# Altium footprint library mmWave_RIS_Lumo.PcbLib: 7 footprints
Each footprint in its own frame and in the unit in brackets; x right, y up, seen from the top. Pads: shape width x height; smd on the part's side, far side on the other; paste and mask are expansions set on the pad; w line width, h text height; cw(c..) or ccw(c..) is an arc to the next point about the centre after c.
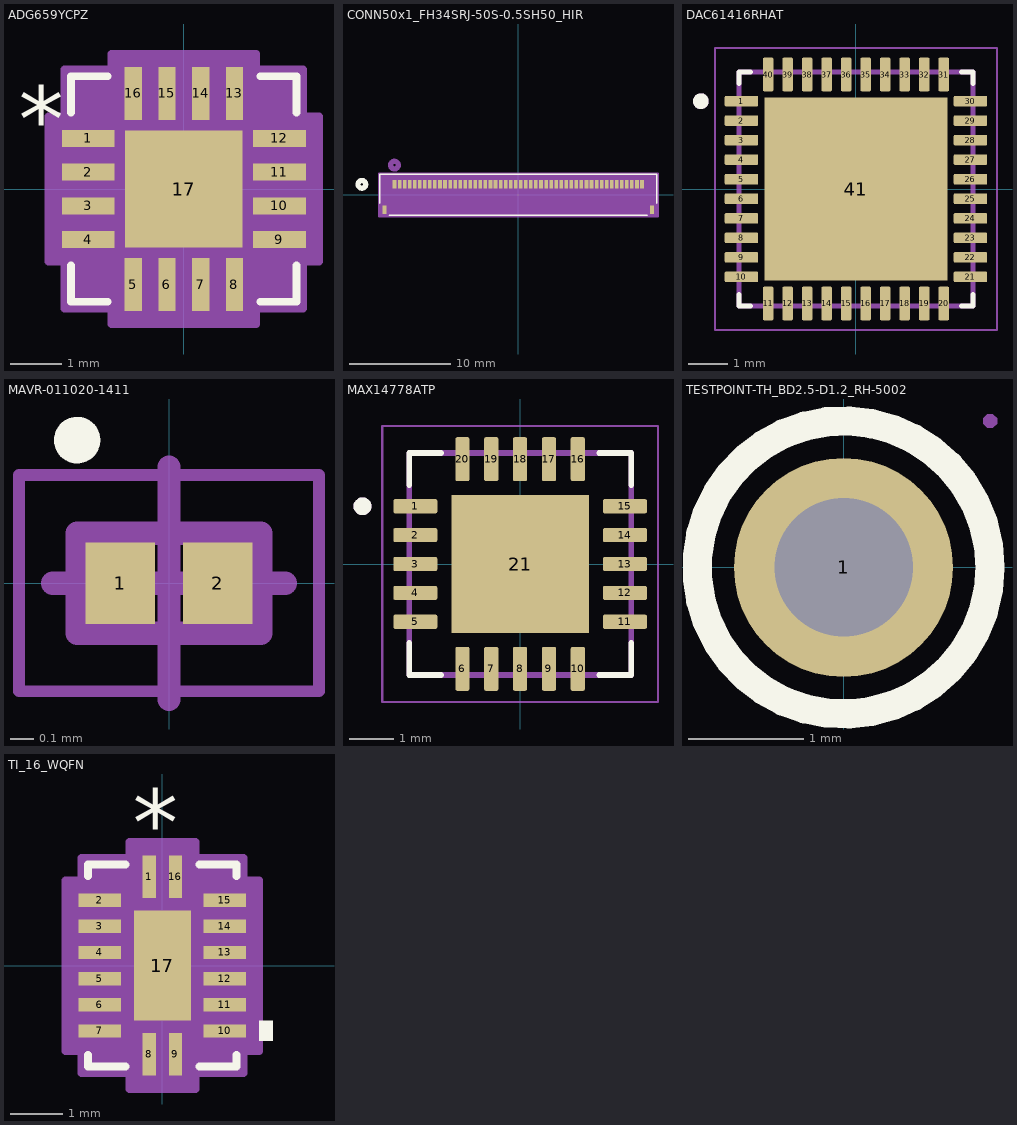
[diagram p0: the footprints below, top view; thin cyan lines are the x and y axes]

## ADG659YCPZ [mil]
pads (17):
  rect 40x13 smd paste+0 mask+0: 1(-72.5,38.39) 2(-72.5,12.8) 3(-72.5,-12.8) 4(-72.5,-38.39) 9(72.5,-38.39) 10(72.5,-12.8) 11(72.5,12.8) 12(72.5,38.39)
  rect 13x40 smd paste+0 mask+0: 5(-38.39,-72.5) 6(-12.8,-72.5) 7(12.8,-72.5) 8(38.39,-72.5) 13(38.39,72.5) 14(12.8,72.5) 15(-12.8,72.5) 16(-38.39,72.5)
  rect 89x89 smd paste+0 mask+0: 17(0,0)
Top Overlay:
  lines w6: -85.5,-57.99 -85.5,-85.5 -57.99,-85.5 ; -85.5,57.99 -85.5,85.5 -57.99,85.5 ; 57.99,-85.5 85.5,-85.5 85.5,-57.99 ; 57.99,85.5 85.5,85.5 85.5,57.99
  text ".Designator" at -137.5,-25 h50
  text "*" at -125,28.39 h50
Mechanical 13:
  lines w1: -80.5,-80.5 -80.5,80.5 80.5,80.5 80.5,-80.5 -80.5,-80.5 ; -80.5,-45.39 -80.5,-31.39 -80.5,-45.39 ; -80.5,-19.8 -80.5,-5.8 -80.5,-19.8 ; -80.5,5.8 -80.5,19.8 -80.5,5.8 ; -80.5,31.39 -80.5,45.39 -80.5,31.39 ; -45.39,-80.5 -31.39,-80.5 -45.39,-80.5 ; -45.39,80.5 -31.39,80.5 -45.39,80.5 ; -19.8,-80.5 -5.8,-80.5 -19.8,-80.5 ; -19.8,80.5 -5.8,80.5 -19.8,80.5 ; 5.8,-80.5 19.8,-80.5 5.8,-80.5 ; 5.8,80.5 19.8,80.5 5.8,80.5 ; 31.39,-80.5 45.39,-80.5 31.39,-80.5 ; 31.39,80.5 45.39,80.5 31.39,80.5 ; 80.5,-45.39 80.5,-31.39 80.5,-45.39 ; 80.5,-19.8 80.5,-5.8 80.5,-19.8 ; 80.5,5.8 80.5,19.8 80.5,5.8 ; 80.5,31.39 80.5,45.39 80.5,31.39
  text "*" at -68.75,31.89 h25
  text ".Designator" at -137.5,-25 h50
Mechanical 15:
  region: -54.89,-90.5 -90.5,-90.5 -90.5,-54.89 -102.5,-54.89 -102.5,54.89 -90.5,54.89 -90.5,90.5 -54.89,90.5 -54.89,102.5 54.89,102.5 54.89,90.5 90.5,90.5 90.5,54.89 102.5,54.89 102.5,-54.89 90.5,-54.89 90.5,-90.5 54.89,-90.5 54.89,-102.5 -54.89,-102.5
  lines w6: -102.5,-54.89 -102.5,54.89 -90.5,54.89 -90.5,90.5 -54.89,90.5 -54.89,102.5 54.89,102.5 54.89,90.5 90.5,90.5 90.5,54.89 102.5,54.89 102.5,-54.89 90.5,-54.89 90.5,-90.5 54.89,-90.5 54.89,-102.5 -54.89,-102.5 -54.89,-90.5 -90.5,-90.5 -90.5,-54.89 -102.5,-54.89
3D body "CP-16-23_ADI.step": height 32.09, standoff 0, extent -80.51,-80.51 80.51,80.51

## CONN50x1_FH34SRJ-50S-0.5SH50_HIR [mil]
pads (52):
  rect 14x33 smd paste+0 mask+0: 1(-482.28,41.14) 2(-462.6,41.14) 3(-442.91,41.14) 4(-423.23,41.14) 5(-403.54,41.14) 6(-383.86,41.14) 7(-364.17,41.14) 8(-344.49,41.14) 9(-324.8,41.14) 10(-305.12,41.14) 11(-285.43,41.14) 12(-265.75,41.14) 13(-246.06,41.14) 14(-226.38,41.14) 15(-206.69,41.14) 16(-187.01,41.14) 17(-167.32,41.14) 18(-147.64,41.14) 19(-127.95,41.14) 20(-108.27,41.14) 21(-88.58,41.14) 22(-68.9,41.14) 23(-49.21,41.14) 24(-29.53,41.14) 25(-9.84,41.14) 26(9.84,41.14) 27(29.53,41.14) 28(49.21,41.14) 29(68.9,41.14) 30(88.58,41.14) 31(108.27,41.14) 32(127.95,41.14) 33(147.64,41.14) 34(167.32,41.14) 35(187.01,41.14) 36(206.69,41.14) 37(226.38,41.14) 38(246.06,41.14) 39(265.75,41.14) 40(285.43,41.14) 41(305.12,41.14) 42(324.8,41.14) 43(344.49,41.14) 44(364.17,41.14) 45(383.86,41.14) 46(403.54,41.14) 47(423.23,41.14) 48(442.91,41.14) 49(462.6,41.14) 50(482.28,41.14)
  rect 16x33 smd paste-16.5 mask-16.5: 51(-521.65,-57.28) 52(521.65,-57.28)
Top Overlay:
  circle w20: c-609.5,41.14 r15
  lines w6: -539.5,-32.14 -539.5,80 539.5,80 539.5,-32.14 ; -502.12,-80 502.12,-80
  text ".Designator" at -137.5,16.14 h50
Bottom Overlay:
  circle w20: c-609.5,41.14 r15
Mechanical 13:
  circle w20: c-482.28,116.14 r15
  lines w1: -534.5,-75 534.5,-75 534.5,75 -534.5,75 -534.5,-75
  text ".Designator" at -137.5,16.14 h50
Mechanical 15:
  region: 544.5,85 -544.5,85 -544.5,-85 544.5,-85
  lines w6: -544.5,-85 -544.5,85 544.5,85 544.5,-85 -544.5,-85
3D body "FH34SRJ-50S-0.5SH(99).STEP": height 39.37, standoff 0, extent -531.5,-79.8 531.5,69.8

## DAC61416RHAT [mm]
pads (41):
  rrect25% 0.86x0.27 smd: 1(-2.935,2.25) 2(-2.935,1.75) 3(-2.935,1.25) 4(-2.935,0.75) 5(-2.935,0.25) 6(-2.935,-0.25) 7(-2.935,-0.75) 8(-2.935,-1.25) 9(-2.935,-1.75) 10(-2.935,-2.25) 21(2.935,-2.25) 22(2.935,-1.75) 23(2.935,-1.25) 24(2.935,-0.75) 25(2.935,-0.25) 26(2.935,0.25) 27(2.935,0.75) 28(2.935,1.25) 29(2.935,1.75) 30(2.935,2.25)
  rrect25% 0.27x0.86 smd: 11(-2.25,-2.935) 12(-1.75,-2.935) 13(-1.25,-2.935) 14(-0.75,-2.935) 15(-0.25,-2.935) 16(0.25,-2.935) 17(0.75,-2.935) 18(1.25,-2.935) 19(1.75,-2.935) 20(2.25,-2.935) 31(2.25,2.935) 32(1.75,2.935) 33(1.25,2.935) 34(0.75,2.935) 35(0.25,2.935) 36(-0.25,2.935) 37(-0.75,2.935) 38(-1.25,2.935) 39(-1.75,2.935) 40(-2.25,2.935)
  rect 4.7x4.7 smd paste-3: 41(0,0)
Top Overlay:
  circle w0.2: c-3.975,2.25 r0.1
  lines w0.127: -3,-2.705 -3,-3 -2.705,-3 ; -3,2.705 -3,3 -2.705,3 ; 2.705,-3 3,-3 3,-2.705 ; 2.705,3 3,3 3,2.705
Top Paste:
  region: 1.915,-1.915 0.435,-1.915 0.435,-0.435 1.915,-0.435
  region: -0.435,-1.915 -1.915,-1.915 -1.915,-0.435 -0.435,-0.435
  region: 1.915,0.435 0.435,0.435 0.435,1.915 1.915,1.915
  region: -0.435,0.435 -1.915,0.435 -1.915,1.915 -0.435,1.915
Mechanical 13:
  circle w0.2: c-3.975,2.25 r0.1
  lines w0.127: -3,-3 -3,3 3,3 3,-3 -3,-3
Mechanical 15:
  lines w0.05: -3.615,-3.615 -3.615,3.615 3.615,3.615 3.615,-3.615 -3.615,-3.615
3D body "DAC61416RHAT.step": height 1, standoff 0, extent -3,-3 3,3

## MAVR-011020-1411 [mm] "DFN, 2-Leads, Body 0.41x0.76mm, Pitch 0.42mm, IPC Medium Density"
height 0.22
pads (2):
  rect 0.3x0.35 smd: 1(-0.209,0) 2(0.209,0)
Top Overlay:
  circle w0.1: c-0.395,0.615 r0.05
Mechanical 13:
  lines w0.1: -0.395,-0.215 0.395,-0.215 0.395,0.215 -0.395,0.215 -0.395,-0.215
Mechanical 15:
  lines w0.05: -0.645,-0.465 0.645,-0.465 0.645,0.465 -0.645,0.465 -0.645,-0.465
  lines w0.1: -0.5,0 0.5,0 ; 0,-0.5 0,0.5
3D body "MAVR-011020-1411_wizard.step": height 0.22, standoff 0, extent -0.393,-0.216 0.393,0.216

## MAX14778ATP [mm]
pads (21):
  rrect25% 0.99x0.32 smd: 1(-2.36,1.3) 2(-2.36,0.65) 3(-2.36,0) 4(-2.36,-0.65) 5(-2.36,-1.3) 11(2.36,-1.3) 12(2.36,-0.65) 13(2.36,0) 14(2.36,0.65) 15(2.36,1.3)
  rrect25% 0.32x0.99 smd: 6(-1.3,-2.36) 7(-0.65,-2.36) 8(0,-2.36) 9(0.65,-2.36) 10(1.3,-2.36) 16(1.3,2.36) 17(0.65,2.36) 18(0,2.36) 19(-0.65,2.36) 20(-1.3,2.36)
  rect 3.1x3.1 smd paste-0.57: 21(0,0)
Top Overlay:
  circle w0.2: c-3.55,1.3 r0.1
  lines w0.127: -2.5,-1.78 -2.5,-2.5 -1.78,-2.5 ; -2.5,1.78 -2.5,2.5 -1.78,2.5 ; 1.78,-2.5 2.5,-2.5 2.5,-1.78 ; 1.78,2.5 2.5,2.5 2.5,1.78
Mechanical 13:
  circle w0.2: c-3.55,1.3 r0.1
  lines w0.127: -2.5,-2.5 -2.5,2.5 2.5,2.5 2.5,-2.5 -2.5,-2.5
Mechanical 15:
  lines w0.05: -3.105,-3.105 -3.105,3.105 3.105,3.105 3.105,-3.105 -3.105,-3.105
3D body "MAX14778ATP+.stp": height 0.8, standoff 0, extent -2.55,-2.55 2.55,2.55

## TESTPOINT-TH_BD2.5-D1.2_RH-5002 [mm]
pads (1):
  round 1.9 hole 1.2: 1(0,0)
Top Overlay:
  circle w0.254: c0,0 r1.27
Mechanical 15:
  region: 1.33,1.27 1.33,1.245 1.295,1.21 1.245,1.21 1.21,1.245 1.21,1.27 1.21,1.295 1.245,1.33 1.295,1.33 1.33,1.295
  region: -0.695,0.25 0.695,0.25 0.695,-0.25 -0.695,-0.25
  lines w0.051: -1.27,0 cw(c0,0) 1.27,0 cw(c0,0) -1.27,0

## TI_16_WQFN [mil]
pads (17):
  rect 10x32 smd paste+0 mask+0: 1(-9.85,67) 8(-9.85,-67) 9(9.85,-67) 16(9.85,67)
  rect 32x10 smd paste+0 mask+0: 2(-47,49.23) 3(-47,29.54) 4(-47,9.85) 5(-47,-9.85) 6(-47,-29.54) 7(-47,-49.23) 10(47,-49.23) 11(47,-29.54) 12(47,-9.85) 13(47,9.85) 14(47,29.54) 15(47,49.23)
  rect 43x83 smd paste+0 mask+0: 17(0,0)
Top Overlay:
  region: 73,-41.73 83,-41.73 83,-56.73 73,-56.73
  lines w6: -56,-67.33 -56,-76 -27.95,-76 ; -56,67.33 -56,76 -27.95,76 ; 27.95,-76 56,-76 56,-67.33 ; 27.95,76 56,76 56,67.33
  text "*" at -22.34,83 h50
  text ".Designator" at -137.5,-25 h50
Mechanical 13:
  lines w1: -51,21 -1,71 ; -51,-71 51,-71 51,71 -51,71 -51,-71 ; -51,-55.23 -51,-43.23 -51,-55.23 ; -51,-35.53 -51,-23.54 -51,-35.53 ; -51,-15.85 -51,-3.85 -51,-15.85 ; -51,3.85 -51,15.85 -51,3.85 ; -51,23.54 -51,35.53 -51,23.54 ; -51,43.23 -51,55.23 -51,43.23 ; -15.85,-71 -3.85,-71 -15.85,-71 ; -15.85,71 -3.85,71 -15.85,71 ; 3.85,-71 15.85,-71 3.85,-71 ; 3.85,71 15.85,71 3.85,71 ; 51,-55.23 51,-43.23 51,-55.23 ; 51,-35.53 51,-23.54 51,-35.53 ; 51,-15.85 51,-3.85 51,-15.85 ; 51,3.85 51,15.85 51,3.85 ; 51,23.54 51,35.53 51,23.54 ; 51,43.23 51,55.23 51,43.23
  text ".Designator" at -137.5,-25 h50
  text "*" at -22.34,26 h50
Mechanical 15:
  region: -24.84,-81 -61,-81 -61,-64.22 -73,-64.22 -73,64.22 -61,64.22 -61,81 -24.84,81 -24.84,93 24.84,93 24.84,81 61,81 61,64.22 73,64.22 73,-64.22 61,-64.22 61,-81 24.84,-81 24.84,-93 -24.84,-93
  lines w6: -73,-64.22 -61,-64.22 -61,-81 -24.84,-81 -24.84,-93 24.84,-93 24.84,-81 61,-81 61,-64.22 73,-64.22 73,64.22 61,64.22 61,81 24.84,81 24.84,93 -24.84,93 -24.84,81 -61,81 -61,64.22 -73,64.22 -73,-64.22
3D body "WQFN16_BQB_TEX.step": height 32.09, standoff 0, extent -50.98,-70.98 50.98,70.98